# Altium footprint library ANALOG_DEVICES.PcbLib: 1 footprints
Each footprint in its own frame and in the unit in brackets; x right, y up, seen from the top. Pads: shape width x height; smd on the part's side, far side on the other; paste and mask are expansions set on the pad; w line width, h text height; cw(c..) or ccw(c..) is an arc to the next point about the centre after c.
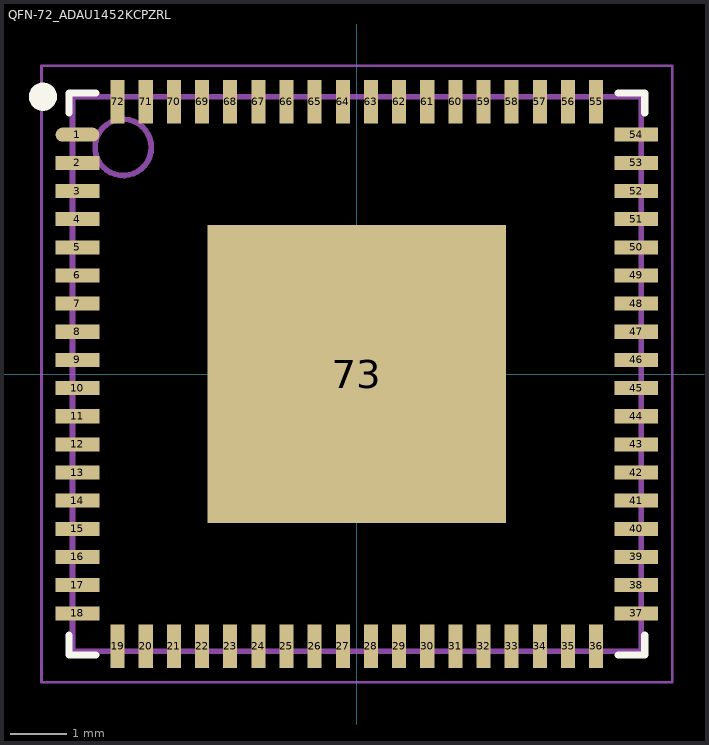
[diagram p0: the footprint, top view; thin cyan lines are the x and y axes]

## QFN-72_ADAU1452KCPZRL [mm] "DSP,4xI2S,I2C,SPI,1.2V-3.6V,16channels, 10 bit resolution, max_clk = 294MHz"
height 1
pads (73):
  oval 0.775x0.25 smd: 1(-4.962,4.25)
  rect 0.775x0.25 smd: 2(-4.962,3.75) 3(-4.962,3.25) 4(-4.962,2.75) 5(-4.962,2.25) 6(-4.962,1.75) 7(-4.962,1.25) 8(-4.962,0.75) 9(-4.962,0.25) 10(-4.962,-0.25) 11(-4.962,-0.75) 12(-4.962,-1.25) 13(-4.962,-1.75) 14(-4.962,-2.25) 15(-4.962,-2.75) 16(-4.962,-3.25) 17(-4.962,-3.75) 18(-4.962,-4.25) 37(4.962,-4.25) 38(4.962,-3.75) 39(4.962,-3.25) 40(4.962,-2.75) 41(4.962,-2.25) 42(4.962,-1.75) 43(4.962,-1.25) 44(4.962,-0.75) 45(4.962,-0.25) 46(4.962,0.25) 47(4.962,0.75) 48(4.962,1.25) 49(4.962,1.75) 50(4.962,2.25) 51(4.962,2.75) 52(4.962,3.25) 53(4.962,3.75) 54(4.962,4.25)
  rect 0.25x0.775 smd: 19(-4.25,-4.837) 20(-3.75,-4.837) 21(-3.25,-4.837) 22(-2.75,-4.837) 23(-2.25,-4.837) 24(-1.75,-4.837) 25(-1.25,-4.837) 26(-0.75,-4.837) 27(-0.25,-4.837) 28(0.25,-4.837) 29(0.75,-4.837) 30(1.25,-4.837) 31(1.75,-4.837) 32(2.25,-4.837) 33(2.75,-4.837) 34(3.25,-4.837) 35(3.75,-4.837) 36(4.25,-4.837) 55(4.25,4.838) 56(3.75,4.838) 57(3.25,4.838) 58(2.75,4.838) 59(2.25,4.838) 60(1.75,4.838) 61(1.25,4.838) 62(0.75,4.838) 63(0.25,4.838) 64(-0.25,4.838) 65(-0.75,4.838) 66(-1.25,4.838) 67(-1.75,4.838) 68(-2.25,4.838) 69(-2.75,4.838) 70(-3.25,4.838) 71(-3.75,4.838) 72(-4.25,4.838)
  rect 5.3x5.3 smd paste-2.65: 73(0,0)
Top Overlay:
  circle w0.25: c-5.577,4.925 r0.125
  lines w0.127: -5.114,-4.638 -5.114,-4.988 -4.638,-4.988 ; -5.114,4.639 -5.114,4.989 -4.638,4.989 ; 4.638,-4.988 5.114,-4.988 5.114,-4.638 ; 4.638,4.989 5.114,4.989 5.114,4.639
Top Paste:
  rectangle: 0.325,-2.001 2.001,-0.325
  rectangle: 0.325,0.325 2.001,2.001
  rectangle: -2.001,-2.001 -0.325,-0.325
  rectangle: -2.001,0.325 -0.325,2.001
Mechanical 13:
  circle w0.1: c-4.15,4.025 r0.5
  lines w0.1: -5.05,-4.925 5.05,-4.925 5.05,4.925 -5.05,4.925 -5.05,-4.925
Mechanical 15:
  lines w0.05: -5.6,-5.475 5.6,-5.475 5.6,5.475 -5.6,5.475 -5.6,-5.475
  lines w0.1: -0.5,0 0.5,0 ; 0,-0.5 0,0.5
3D body "ADAU1452KCPZ.stp": height 1, standoff 0, extent -5.055,-5.045 5.045,5.055